# Altium footprint library Discretes.PCBLIB: 77 footprints (part 1 of 5)
Each footprint in its own frame and in the unit in brackets; x right, y up, seen from the top. Pads: shape width x height; smd on the part's side, far side on the other; paste and mask are expansions set on the pad; w line width, h text height; cw(c..) or ccw(c..) is an arc to the next point about the centre after c.
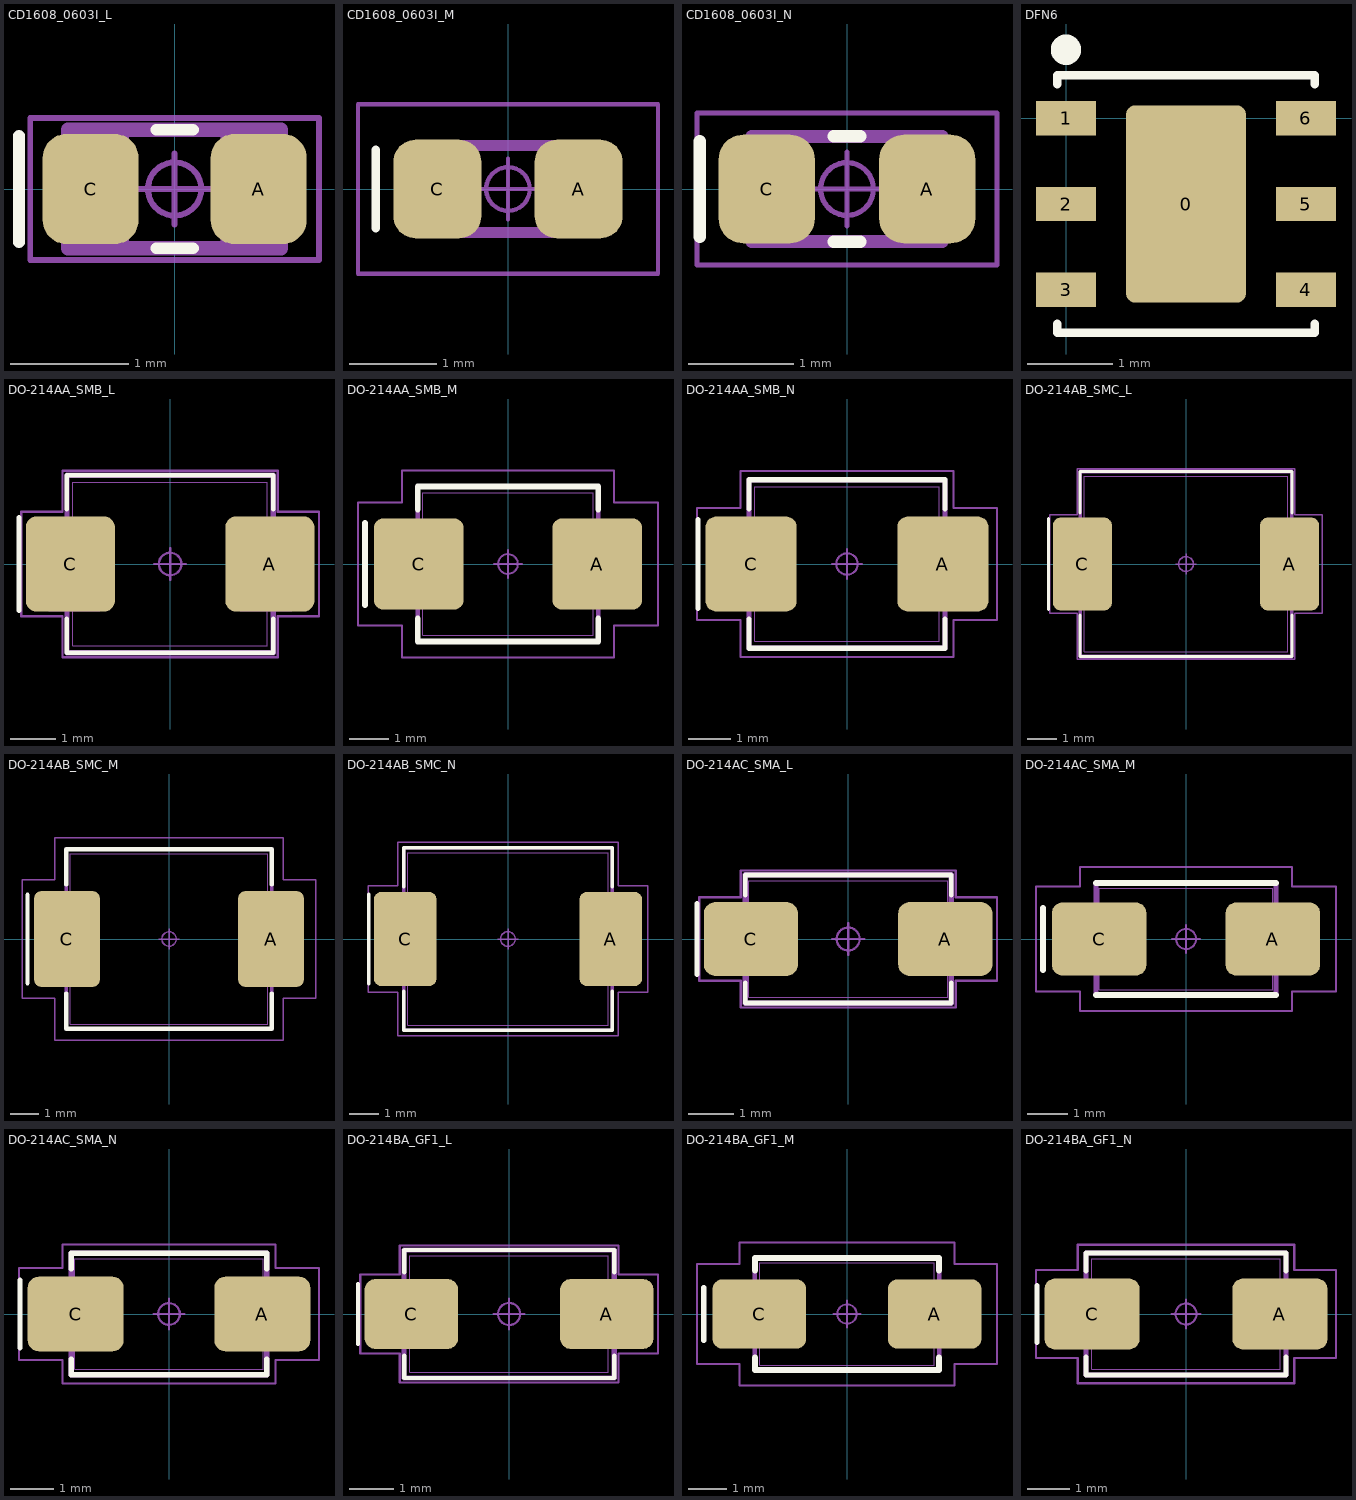
[diagram p0: the footprints below, top view; thin cyan lines are the x and y axes]

## CD1608_0603I_L [mm] "Diode, Chip; 1.70 mm L X 0.90 mm W X 0.85 mm H body"
height 0.85
pads (2):
  rrect49% 0.81x0.93 smd: A(0.71,0) C(-0.71,0)
Top Overlay:
  lines w0.1: -1.315,-0.45 -1.315,0.45 ; -0.155,-0.5 0.155,-0.5 ; -0.155,0.5 0.155,0.5
Top Body, 3D Models:
  lines w0.025: -0.85,-0.45 0.85,-0.45 0.85,0.45 -0.85,0.45 -0.85,-0.45
Top Courtyard:
  circle w0.05: c0,0 r0.225
  lines w0.05: -0.3,0 0.3,0 ; 0,-0.3 0,0.3 ; -1.22,-0.6 1.22,-0.6 1.22,0.6 -1.22,0.6 -1.22,-0.6
Top DesignatorDoc:
  text ".Designator" at 0,0 h1
Top Pad Outlines:
  lines w0.025: -0.85,-0.45 -0.85,0.45 -0.4,0.45 -0.4,-0.45 -0.85,-0.45 ; 0.4,-0.45 0.85,-0.45 0.85,0.45 0.4,0.45 0.4,-0.45
Top Assembly Outline:
  lines w0.12: -0.9,-0.5 0.9,-0.5 0.9,0.5 -0.9,0.5 -0.9,-0.5
3D body "CD1608_0603I_L.STEP": height 0.85, standoff 0, extent -0.85,-0.45 0.85,0.45

## CD1608_0603I_M [mm] "Diode, Chip; 1.70 mm L X 0.90 mm W X 0.85 mm H body"
height 0.85
pads (2):
  rrect50% 1.01x1.13 smd: A(0.81,0) C(-0.81,0)
Top Overlay:
  lines w0.1: -1.515,-0.45 -1.515,0.45
Top Body, 3D Models:
  lines w0.025: -0.85,-0.45 -0.85,0.45 0.85,0.45 0.85,-0.45 -0.85,-0.45
Top Courtyard:
  circle w0.05: c0,0 r0.25
  lines w0.05: -0.35,0 0.35,0 ; 0,-0.35 0,0.35 ; -1.72,-0.97 -1.72,0.97 1.72,0.97 1.72,-0.97 -1.72,-0.97
Top DesignatorDoc:
  text ".Designator" at 0,0 h1.5
Top Pad Outlines:
  lines w0.025: -0.85,-0.45 -0.4,-0.45 -0.4,0.45 -0.85,0.45 -0.85,-0.45 ; 0.4,-0.45 0.4,0.45 0.85,0.45 0.85,-0.45 0.4,-0.45
Top Assembly Outline:
  lines w0.12: -0.9,-0.5 -0.9,0.5 0.9,0.5 0.9,-0.5 -0.9,-0.5
3D body "CD1608_0603I_M.STEP": height 0.85, standoff 0, extent -0.85,-0.45 0.85,0.45

## CD1608_0603I_N [mm] "Diode, Chip; 1.70 mm L X 0.90 mm W X 0.85 mm H body"
height 0.85
pads (2):
  rrect51% 0.91x1.03 smd: A(0.76,0) C(-0.76,0)
Top Overlay:
  lines w0.12: -1.395,-0.45 -1.395,0.45 ; -0.125,-0.5 0.125,-0.5 ; -0.125,0.5 0.125,0.5
Top Body, 3D Models:
  lines w0.025: -0.85,-0.45 0.85,-0.45 0.85,0.45 -0.85,0.45 -0.85,-0.45
Top Courtyard:
  circle w0.05: c0,0 r0.25
  lines w0.05: -0.35,0 0.35,0 ; 0,-0.35 0,0.35 ; -1.42,-0.72 1.42,-0.72 1.42,0.72 -1.42,0.72 -1.42,-0.72
Top DesignatorDoc:
  text ".Designator" at 0,0 h1.2
Top Pad Outlines:
  lines w0.025: -0.85,-0.45 -0.85,0.45 -0.4,0.45 -0.4,-0.45 -0.85,-0.45 ; 0.4,-0.45 0.85,-0.45 0.85,0.45 0.4,0.45 0.4,-0.45
Top Assembly Outline:
  lines w0.12: -0.9,-0.5 0.9,-0.5 0.9,0.5 -0.9,0.5 -0.9,-0.5
3D body "CD1608_0603I_N.STEP": height 0.85, standoff 0, extent -0.85,-0.45 0.85,0.45

## DFN6 [mm]
pads (7):
  rrect15% 1.4x2.3 smd: 0(1.4,-1)
  rect 0.7x0.4 smd: 1(0,0) 2(0,-1) 3(0,-2) 4(2.8,-2) 5(2.8,-1) 6(2.8,0)
Top Overlay:
  circle w0.254: c0,0.8 r0.05
  lines w0.1: -0.1,-2.4 -0.1,-2.5 2.9,-2.5 2.9,-2.4 ; -0.1,0.4 -0.1,0.5 2.9,0.5 2.9,0.4
3D body "SHT21.step": height 1.1, standoff -0.02, extent -0.11,-2.5 2.91,0.5

## DO-214AA_SMB_L [mm] "Diode, Molded Body; 5.40 mm L X 3.62 mm W X 2.44 mm H body"
height 2.44
pads (2):
  rrect25% 1.98x2.12 smd: A(2.215,0) C(-2.215,0)
Top Overlay:
  lines w0.1: -3.355,-1.04 -3.355,1.04 ; -2.29,-1.21 -2.29,-1.97 2.29,-1.97 2.29,-1.21 ; -2.29,1.21 -2.29,1.97 2.29,1.97 2.29,1.21
Top Body, 3D Models:
  lines w0.025: -2.157,-1.81 -2.157,1.81 2.157,1.81 2.157,-1.81 -2.157,-1.81
Top Courtyard:
  circle w0.05: c0,0 r0.25
  lines w0.05: -0.35,0 0.35,0 ; 0,-0.35 0,0.35 ; -3.305,-1.16 -3.305,1.16 -2.39,1.16 -2.39,2.07 2.39,2.07 2.39,1.16 3.305,1.16 3.305,-1.16 2.39,-1.16 2.39,-2.07 -2.39,-2.07 -2.39,-1.16 -3.305,-1.16
Top DesignatorDoc:
  text ".Designator" at 0,0 h1
Top Pad Outlines:
  lines w0.025: -2.7,-1.038 -1.56,-1.038 -1.56,1.038 -2.7,1.038 -2.7,-1.038 ; 1.56,-1.038 1.56,1.038 2.7,1.038 2.7,-1.038 1.56,-1.038
Top Assembly Outline:
  lines w0.12: -2.29,-1.97 -2.29,1.97 2.29,1.97 2.29,-1.97 -2.29,-1.97
3D body "DO-214AA_SMB_L.STEP": height 2.44, standoff 0, extent -2.7,-1.81 2.7,1.81

## DO-214AA_SMB_M [mm] "Diode, Molded Body; 5.40 mm L X 3.62 mm W X 2.44 mm H body"
height 2.44
pads (2):
  rrect22% 2.28x2.32 smd: A(2.265,0) C(-2.265,0)
Top Overlay:
  lines w0.15: -3.63,-1.04 -3.63,1.04 ; -2.29,-1.385 -2.29,-1.97 2.29,-1.97 2.29,-1.385 ; -2.29,1.385 -2.29,1.97 2.29,1.97 2.29,1.385
Top Body, 3D Models:
  lines w0.025: -2.157,-1.81 -2.157,1.81 2.157,1.81 2.157,-1.81 -2.157,-1.81
Top Courtyard:
  circle w0.05: c0,0 r0.25
  lines w0.05: -0.35,0 0.35,0 ; 0,-0.35 0,0.35 ; -3.805,-1.56 -3.805,1.56 -2.69,1.56 -2.69,2.37 2.69,2.37 2.69,1.56 3.805,1.56 3.805,-1.56 2.69,-1.56 2.69,-2.37 -2.69,-2.37 -2.69,-1.56 -3.805,-1.56
Top DesignatorDoc:
  text ".Designator" at 0,0 h1.5
Top Pad Outlines:
  lines w0.025: -2.7,-1.038 -1.56,-1.038 -1.56,1.038 -2.7,1.038 -2.7,-1.038 ; 1.56,-1.038 1.56,1.038 2.7,1.038 2.7,-1.038 1.56,-1.038
Top Assembly Outline:
  lines w0.12: -2.29,-1.97 -2.29,1.97 2.29,1.97 2.29,-1.97 -2.29,-1.97
3D body "DO-214AA_SMB_M.STEP": height 2.44, standoff 0, extent -2.7,-1.81 2.7,1.81

## DO-214AA_SMB_N [mm] "Diode, Molded Body; 5.40 mm L X 3.62 mm W X 2.44 mm H body"
height 2.44
pads (2):
  rrect23% 2.13x2.22 smd: A(2.24,0) C(-2.24,0)
Top Overlay:
  lines w0.12: -3.485,-1.04 -3.485,1.04 ; -2.29,-1.29 -2.29,-1.97 2.29,-1.97 2.29,-1.29 ; -2.29,1.29 -2.29,1.97 2.29,1.97 2.29,1.29
Top Body, 3D Models:
  lines w0.025: -2.157,-1.81 2.157,-1.81 2.157,1.81 -2.157,1.81 -2.157,-1.81
Top Courtyard:
  circle w0.05: c0,0 r0.25
  lines w0.05: -0.35,0 0.35,0 ; 0,-0.35 0,0.35 ; -3.505,-1.31 -2.49,-1.31 -2.49,-2.17 2.49,-2.17 2.49,-1.31 3.505,-1.31 3.505,1.31 2.49,1.31 2.49,2.17 -2.49,2.17 -2.49,1.31 -3.505,1.31 -3.505,-1.31
Top DesignatorDoc:
  text ".Designator" at 0,0 h1.2
Top Pad Outlines:
  lines w0.025: -2.7,-1.038 -2.7,1.038 -1.56,1.038 -1.56,-1.038 -2.7,-1.038 ; 1.56,-1.038 2.7,-1.038 2.7,1.038 1.56,1.038 1.56,-1.038
Top Assembly Outline:
  lines w0.12: -2.29,-1.97 2.29,-1.97 2.29,1.97 -2.29,1.97 -2.29,-1.97
3D body "DO-214AA_SMB__N.STEP": height 2.44, standoff 0, extent -2.7,-1.81 2.7,1.81

## DO-214AB_SMC_L [mm] "Diode, Molded Body; 7.94 mm L X 5.905 mm W X 2.62 mm H body"
height 2.62
pads (2):
  rrect25% 1.98x3.12 smd: A(3.485,0) C(-3.485,0)
Top Overlay:
  lines w0.1: -4.625,-1.53 -4.625,1.53 ; -3.56,-1.71 -3.56,-3.11 3.56,-3.11 3.56,-1.71 ; -3.56,1.71 -3.56,3.11 3.56,3.11 3.56,1.71
Top Body, 3D Models:
  lines w0.025: -3.427,-2.953 -3.427,2.953 3.427,2.953 3.427,-2.953 -3.427,-2.953
Top Courtyard:
  circle w0.05: c0,0 r0.25
  lines w0.05: -0.35,0 0.35,0 ; 0,-0.35 0,0.35 ; -4.575,-1.66 -4.575,1.66 -3.66,1.66 -3.66,3.21 3.66,3.21 3.66,1.66 4.575,1.66 4.575,-1.66 3.66,-1.66 3.66,-3.21 -3.66,-3.21 -3.66,-1.66 -4.575,-1.66
Top DesignatorDoc:
  text ".Designator" at 0,0 h1
Top Pad Outlines:
  lines w0.025: -3.97,-1.525 -2.83,-1.525 -2.83,1.525 -3.97,1.525 -3.97,-1.525 ; 2.83,-1.525 2.83,1.525 3.97,1.525 3.97,-1.525 2.83,-1.525
Top Assembly Outline:
  lines w0.12: -3.56,-3.11 -3.56,3.11 3.56,3.11 3.56,-3.11 -3.56,-3.11
3D body "DO-214AB_SMC_L.STEP": height 2.62, standoff 0, extent -3.97,-2.953 3.97,2.953

## DO-214AB_SMC_M [mm] "Diode, Molded Body; 7.94 mm L X 5.905 mm W X 2.62 mm H body"
height 2.62
pads (2):
  rrect22% 2.28x3.32 smd: A(3.535,0) C(-3.535,0)
Top Overlay:
  lines w0.15: -4.9,-1.53 -4.9,1.53 ; -3.56,-1.885 -3.56,-3.11 3.56,-3.11 3.56,-1.885 ; -3.56,1.885 -3.56,3.11 3.56,3.11 3.56,1.885
Top Body, 3D Models:
  lines w0.025: -3.427,-2.953 -3.427,2.953 3.427,2.953 3.427,-2.953 -3.427,-2.953
Top Courtyard:
  circle w0.05: c0,0 r0.25
  lines w0.05: -0.35,0 0.35,0 ; 0,-0.35 0,0.35 ; -5.075,-2.06 -5.075,2.06 -3.96,2.06 -3.96,3.51 3.96,3.51 3.96,2.06 5.075,2.06 5.075,-2.06 3.96,-2.06 3.96,-3.51 -3.96,-3.51 -3.96,-2.06 -5.075,-2.06
Top DesignatorDoc:
  text ".Designator" at 0,0 h1.5
Top Pad Outlines:
  lines w0.025: -3.97,-1.525 -2.83,-1.525 -2.83,1.525 -3.97,1.525 -3.97,-1.525 ; 2.83,-1.525 2.83,1.525 3.97,1.525 3.97,-1.525 2.83,-1.525
Top Assembly Outline:
  lines w0.12: -3.56,-3.11 -3.56,3.11 3.56,3.11 3.56,-3.11 -3.56,-3.11
3D body "DO-214AB_SMC_M.STEP": height 2.62, standoff 0, extent -3.97,-2.953 3.97,2.953

## DO-214AB_SMC_N [mm] "Diode, Molded Body; 7.94 mm L X 5.905 mm W X 2.62 mm H body"
height 2.62
pads (2):
  rrect23% 2.13x3.22 smd: A(3.51,0) C(-3.51,0)
Top Overlay:
  lines w0.12: -4.755,-1.53 -4.755,1.53 ; -3.56,-1.79 -3.56,-3.11 3.56,-3.11 3.56,-1.79 ; -3.56,1.79 -3.56,3.11 3.56,3.11 3.56,1.79
Top Body, 3D Models:
  lines w0.025: -3.427,-2.953 3.427,-2.953 3.427,2.953 -3.427,2.953 -3.427,-2.953
Top Courtyard:
  circle w0.05: c0,0 r0.25
  lines w0.05: -0.35,0 0.35,0 ; 0,-0.35 0,0.35 ; -4.775,-1.81 -3.76,-1.81 -3.76,-3.31 3.76,-3.31 3.76,-1.81 4.775,-1.81 4.775,1.81 3.76,1.81 3.76,3.31 -3.76,3.31 -3.76,1.81 -4.775,1.81 -4.775,-1.81
Top DesignatorDoc:
  text ".Designator" at 0,0 h1.2
Top Pad Outlines:
  lines w0.025: -3.97,-1.525 -3.97,1.525 -2.83,1.525 -2.83,-1.525 -3.97,-1.525 ; 2.83,-1.525 3.97,-1.525 3.97,1.525 2.83,1.525 2.83,-1.525
Top Assembly Outline:
  lines w0.12: -3.56,-3.11 3.56,-3.11 3.56,3.11 -3.56,3.11 -3.56,-3.11
3D body "DO-214AB_SMC_N.STEP": height 2.62, standoff 0, extent -3.97,-2.953 3.97,2.953

## DO-214AC_SMA_L [mm] "Diode, Molded Body; 5.20 mm L X 2.55 mm W X 3.00 mm H body"
height 3
pads (2):
  rrect31% 2.06x1.62 smd: A(2.125,0) C(-2.125,0)
Top Overlay:
  lines w0.1: -3.305,-0.78 -3.305,0.78 ; -2.25,-0.96 -2.25,-1.4 2.25,-1.4 2.25,-0.96 ; -2.25,0.96 -2.25,1.4 2.25,1.4 2.25,0.96
Top Body, 3D Models:
  lines w0.025: -2.175,-1.275 -2.175,1.275 2.175,1.275 2.175,-1.275 -2.175,-1.275
Top Courtyard:
  circle w0.05: c0,0 r0.25
  lines w0.05: -0.35,0 0.35,0 ; 0,-0.35 0,0.35 ; -3.255,-0.91 -3.255,0.91 -2.35,0.91 -2.35,1.5 2.35,1.5 2.35,0.91 3.255,0.91 3.255,-0.91 2.35,-0.91 2.35,-1.5 -2.35,-1.5 -2.35,-0.91 -3.255,-0.91
Top DesignatorDoc:
  text ".Designator" at 0,0 h1
Top Pad Outlines:
  lines w0.025: -2.6,-0.775 -1.46,-0.775 -1.46,0.775 -2.6,0.775 -2.6,-0.775 ; 1.46,-0.775 1.46,0.775 2.6,0.775 2.6,-0.775 1.46,-0.775
Top Assembly Outline:
  lines w0.12: -2.25,-1.4 -2.25,1.4 2.25,1.4 2.25,-1.4 -2.25,-1.4
3D body "DO-214AC_SMA_L.STEP": height 3, standoff 0, extent -2.6,-1.275 2.6,1.275

## DO-214AC_SMA_M [mm] "Diode, Molded Body; 5.20 mm L X 2.55 mm W X 3.00 mm H body"
height 3
pads (2):
  rrect27% 2.36x1.82 smd: A(2.175,0) C(-2.175,0)
Top Overlay:
  lines w0.15: -3.58,-0.78 -3.58,0.78 ; -2.25,-1.4 2.25,-1.4 ; -2.25,1.4 2.25,1.4
Top Body, 3D Models:
  lines w0.025: -2.175,-1.275 2.175,-1.275 2.175,1.275 -2.175,1.275 -2.175,-1.275
Top Courtyard:
  circle w0.05: c0,0 r0.25
  lines w0.05: -0.35,0 0.35,0 ; 0,-0.35 0,0.35 ; -3.755,-1.31 -2.65,-1.31 -2.65,-1.8 2.65,-1.8 2.65,-1.31 3.755,-1.31 3.755,1.31 2.65,1.31 2.65,1.8 -2.65,1.8 -2.65,1.31 -3.755,1.31 -3.755,-1.31
Top DesignatorDoc:
  text ".Designator" at 0,0 h1.5
Top Pad Outlines:
  lines w0.025: -2.6,-0.775 -2.6,0.775 -1.46,0.775 -1.46,-0.775 -2.6,-0.775 ; 1.46,-0.775 2.6,-0.775 2.6,0.775 1.46,0.775 1.46,-0.775
Top Assembly Outline:
  lines w0.12: -2.25,-1.4 2.25,-1.4 2.25,1.4 -2.25,1.4 -2.25,-1.4
3D body "DO-214AC_SMA_M.STEP": height 3, standoff 0, extent -2.6,-1.275 2.6,1.275

## DO-214AC_SMA_N [mm] "Diode, Molded Body; 5.20 mm L X 2.55 mm W X 3.00 mm H body"
height 3
pads (2):
  rrect29% 2.21x1.72 smd: A(2.15,0) C(-2.15,0)
Top Overlay:
  lines w0.12: -3.435,-0.78 -3.435,0.78 ; -2.25,-1.04 -2.25,-1.4 2.25,-1.4 2.25,-1.04 ; -2.25,1.04 -2.25,1.4 2.25,1.4 2.25,1.04
Top Body, 3D Models:
  lines w0.025: -2.175,-1.275 -2.175,1.275 2.175,1.275 2.175,-1.275 -2.175,-1.275
Top Courtyard:
  circle w0.05: c0,0 r0.25
  lines w0.05: -0.35,0 0.35,0 ; 0,-0.35 0,0.35 ; -3.455,-1.06 -3.455,1.06 -2.45,1.06 -2.45,1.6 2.45,1.6 2.45,1.06 3.455,1.06 3.455,-1.06 2.45,-1.06 2.45,-1.6 -2.45,-1.6 -2.45,-1.06 -3.455,-1.06
Top DesignatorDoc:
  text ".Designator" at 0,0 h1.2
Top Pad Outlines:
  lines w0.025: -2.6,-0.775 -1.46,-0.775 -1.46,0.775 -2.6,0.775 -2.6,-0.775 ; 1.46,-0.775 1.46,0.775 2.6,0.775 2.6,-0.775 1.46,-0.775
Top Assembly Outline:
  lines w0.12: -2.25,-1.4 -2.25,1.4 2.25,1.4 2.25,-1.4 -2.25,-1.4
3D body "DO-214AC_SMA_N.STEP": height 3, standoff 0, extent -2.6,-1.275 2.6,1.275

## DO-214BA_GF1_L [mm] "Diode, Molded Body; 5.36 mm L X 2.645 mm W X 3.00 mm H body"
height 3
pads (2):
  rrect31% 2.12x1.59 smd: A(2.215,0) C(-2.215,0)
Top Overlay:
  lines w0.1: -3.425,-0.68 -3.425,0.68 ; -2.38,-0.945 -2.38,-1.45 2.38,-1.45 2.38,-0.945 ; -2.38,0.945 -2.38,1.45 2.38,1.45 2.38,0.945
Top Body, 3D Models:
  lines w0.025: -2.248,-1.322 2.248,-1.322 2.248,1.322 -2.248,1.322 -2.248,-1.322
Top Courtyard:
  circle w0.05: c0,0 r0.25
  lines w0.05: -0.35,0 0.35,0 ; 0,-0.35 0,0.35 ; -3.375,-0.895 -2.48,-0.895 -2.48,-1.55 2.48,-1.55 2.48,-0.895 3.375,-0.895 3.375,0.895 2.48,0.895 2.48,1.55 -2.48,1.55 -2.48,0.895 -3.375,0.895 -3.375,-0.895
Top DesignatorDoc:
  text ".Designator" at 0,0 h1
Top Pad Outlines:
  lines w0.025: -2.68,-0.675 -2.68,0.675 -1.54,0.675 -1.54,-0.675 -2.68,-0.675 ; 1.54,-0.675 2.68,-0.675 2.68,0.675 1.54,0.675 1.54,-0.675
Top Assembly Outline:
  lines w0.12: -2.38,-1.45 2.38,-1.45 2.38,1.45 -2.38,1.45 -2.38,-1.45
3D body "DO-214BA_GF1_L.STEP": height 3, standoff 0, extent -2.68,-1.322 2.68,1.322

## DO-214BA_GF1_M [mm] "Diode, Molded Body; 5.36 mm L X 2.645 mm W X 3.00 mm H body"
height 3
pads (2):
  rrect28% 2.42x1.79 smd: A(2.265,0) C(-2.265,0)
Top Overlay:
  lines w0.15: -3.7,-0.68 -3.7,0.68 ; -2.38,-1.12 -2.38,-1.45 2.38,-1.45 2.38,-1.12 ; -2.38,1.12 -2.38,1.45 2.38,1.45 2.38,1.12
Top Body, 3D Models:
  lines w0.025: -2.248,-1.322 -2.248,1.322 2.248,1.322 2.248,-1.322 -2.248,-1.322
Top Courtyard:
  circle w0.05: c0,0 r0.25
  lines w0.05: -0.35,0 0.35,0 ; 0,-0.35 0,0.35 ; -3.875,-1.295 -3.875,1.295 -2.78,1.295 -2.78,1.85 2.78,1.85 2.78,1.295 3.875,1.295 3.875,-1.295 2.78,-1.295 2.78,-1.85 -2.78,-1.85 -2.78,-1.295 -3.875,-1.295
Top DesignatorDoc:
  text ".Designator" at 0,0 h1.5
Top Pad Outlines:
  lines w0.025: -2.68,-0.675 -1.54,-0.675 -1.54,0.675 -2.68,0.675 -2.68,-0.675 ; 1.54,-0.675 1.54,0.675 2.68,0.675 2.68,-0.675 1.54,-0.675
Top Assembly Outline:
  lines w0.12: -2.38,-1.45 -2.38,1.45 2.38,1.45 2.38,-1.45 -2.38,-1.45
3D body "DO-214BA_GF1_M.STEP": height 3, standoff 0, extent -2.68,-1.322 2.68,1.322

## DO-214BA_GF1_N [mm] "Diode, Molded Body; 5.36 mm L X 2.645 mm W X 3.00 mm H body"
height 3
pads (2):
  rrect30% 2.27x1.69 smd: A(2.24,0) C(-2.24,0)
Top Overlay:
  lines w0.12: -3.555,-0.68 -3.555,0.68 ; -2.38,-1.025 -2.38,-1.45 2.38,-1.45 2.38,-1.025 ; -2.38,1.025 -2.38,1.45 2.38,1.45 2.38,1.025
Top Body, 3D Models:
  lines w0.025: -2.248,-1.322 -2.248,1.322 2.248,1.322 2.248,-1.322 -2.248,-1.322
Top Courtyard:
  circle w0.05: c0,0 r0.25
  lines w0.05: -0.35,0 0.35,0 ; 0,-0.35 0,0.35 ; -3.575,-1.045 -3.575,1.045 -2.58,1.045 -2.58,1.65 2.58,1.65 2.58,1.045 3.575,1.045 3.575,-1.045 2.58,-1.045 2.58,-1.65 -2.58,-1.65 -2.58,-1.045 -3.575,-1.045
Top DesignatorDoc:
  text ".Designator" at 0,0 h1.2
Top Pad Outlines:
  lines w0.025: -2.68,-0.675 -1.54,-0.675 -1.54,0.675 -2.68,0.675 -2.68,-0.675 ; 1.54,-0.675 1.54,0.675 2.68,0.675 2.68,-0.675 1.54,-0.675
Top Assembly Outline:
  lines w0.12: -2.38,-1.45 -2.38,1.45 2.38,1.45 2.38,-1.45 -2.38,-1.45
3D body "DO-214BA_GF1_N.STEP": height 3, standoff 0, extent -2.68,-1.322 2.68,1.322